# Altium schematic symbol library Generic.SchLib: 22 symbols
Pins are listed as number, name and electrical type; pins without a type are passive.

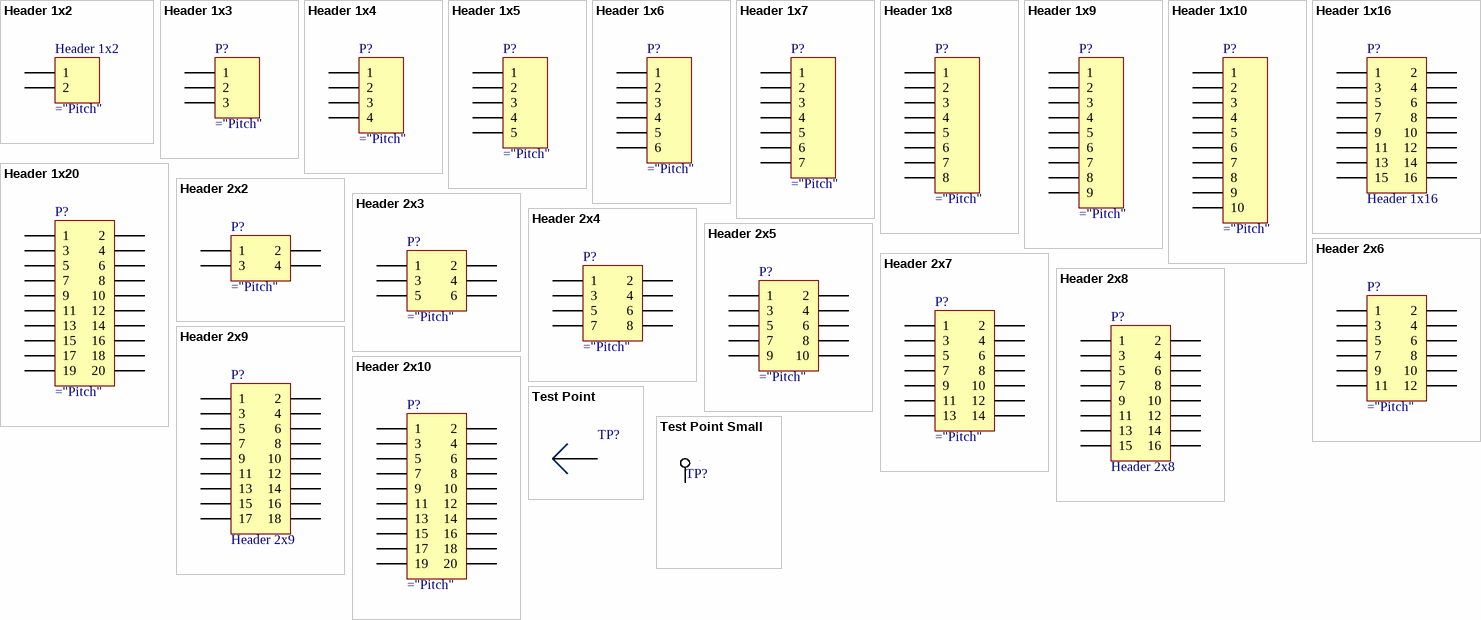
[diagram p0: symbols Header 1x2 to Test Point Small]

## Header 1x2
designator Header 1x2
pins: 1, 2

## Header 1x3
designator P?
pins: 1, 2, 3

## Header 1x4
designator P?
pins: 1, 2, 3, 4

## Header 1x5
designator P?
pins: 1, 2, 3, 4, 5

## Header 1x6
designator P?
pins: 1, 2, 3, 4, 5, 6

## Header 1x7
designator P?
pins: 1, 2, 3, 4, 5, 6, 7

## Header 1x8
designator P?
pins: 1, 2, 3, 4, 5, 6, 7, 8

## Header 1x9
designator P?
pins: 1, 2, 3, 4, 5, 6, 7, 8, 9

## Header 1x10
designator P?
pins: 1, 2, 3, 4, 5, 6, 7, 8, 9, 10

## Header 1x16
designator P?
pins: 1, 2, 3, 4, 5, 6, 7, 8, 9, 10, 11, 12, 13, 14, 15, 16

## Header 1x20
designator P?
pins: 1, 2, 3, 4, 5, 6, 7, 8, 9, 10, 11, 12, 13, 14, 15, 16, 17, 18, 19, 20

## Header 2x2
designator P?
pins: 1, 2, 3, 4

## Header 2x3
designator P?
pins: 1, 2, 3, 4, 5, 6

## Header 2x4
designator P?
pins: 1, 2, 3, 4, 5, 6, 7, 8

## Header 2x5
designator P?
pins: 1, 2, 3, 4, 5, 6, 7, 8, 9, 10

## Header 2x6
designator P?
pins: 1, 2, 3, 4, 5, 6, 7, 8, 9, 10, 11, 12

## Header 2x7
designator P?
pins: 1, 2, 3, 4, 5, 6, 7, 8, 9, 10, 11, 12, 13, 14

## Header 2x8
designator P?
pins: 1, 2, 3, 4, 5, 6, 7, 8, 9, 10, 11, 12, 13, 14, 15, 16

## Header 2x9
designator P?
pins: 1, 2, 3, 4, 5, 6, 7, 8, 9, 10, 11, 12, 13, 14, 15, 16, 17, 18

## Header 2x10
designator P?
pins: 1, 2, 3, 4, 5, 6, 7, 8, 9, 10, 11, 12, 13, 14, 15, 16, 17, 18, 19, 20

## Test Point
designator TP?
pins: 1

## Test Point Small
designator TP?
pins: 1